# Altium schematic symbol library 524265-E.SchLib: 1 symbol
Pins are listed as number, name and electrical type; pins without a type are passive.

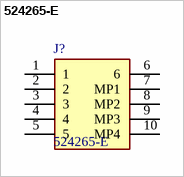
[diagram p0: symbol 524265-E]

## 524265-E
designator J?
PCB Mount Header, Right Angle, Cable-to-Board, 6 Position, 6.2 mm [.244 in] Centerline, Fully Shrouded, Gold (Au), Surface Mount, ERNI VolTron 1000; Manufacturer_Name: TE Connectivity; Geometry.Height: 9.4mm; Mouser Part Number: *; Mouser Price/Stock: *; Manufacturer_Part_Number: 524265-E; Datasheet Link: https://www.te.com/commerce/DocumentDelivery/DDEController?Action=showdoc&DocId=Customer+Drawing%7F524266-E%7FA1%7Fpdf%7FEnglish%7FENG_CD_524266-E_A1.pdf%7F524265-E
footprint 524265E
pins: 1, 2, 3, 4, 5, 6, 7 MP1, 8 MP2, 9 MP3, 10 MP4